# EAGLE library part ZIO_EINK_1IN54 (library df4iah_lcd)
ZIO E-Ink Display 1.54in. V1.0 200 x 200 px Size: 1.54 in. SPI bus
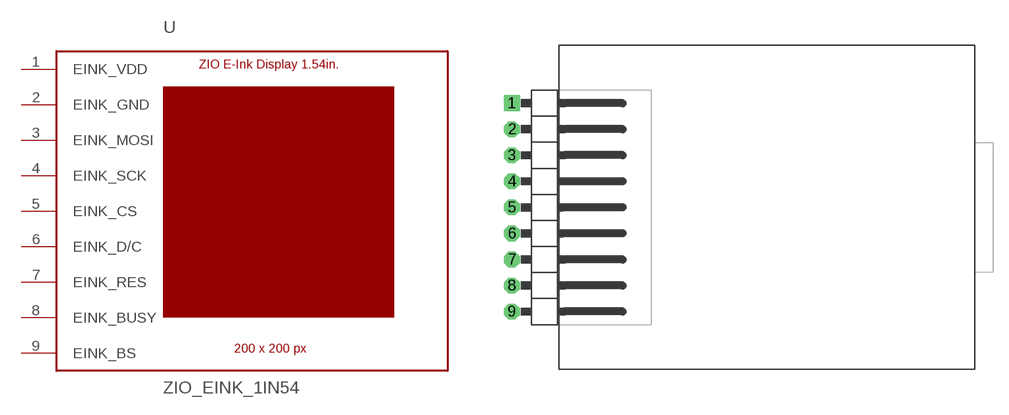
[diagram p2: symbol with the pads of ZIO_EINK_1IN54; footprint ZIO_EINK_1IN54]

Designator prefix U

## ZIO_EINK_1IN54  [ZIO_EINK_1IN54]
1  EINK_VDD  pwr
2  EINK_GND  pas
3  EINK_MOSI  in
4  EINK_SCK  in
5  EINK_CS  in
6  EINK_D/C  in
7  EINK_RES  in
8  EINK_BUSY  out
9  EINK_BS  in

## Footprint ZIO_EINK_1IN54 (pad centres in mm)
ZIO E-Ink Display 1.54in. V1.0 200 x 200 px Size: 1.54 in. SPI bus Connector 1x9/90 100mil inserted
drill 1.016 square: 1 0,10.16
drill 1.016 octagon: 2 0,7.62; 3 0,5.08; 4 0,2.54; 5 0,0; 6 0,-2.54; 7 0,-5.08; 8 0,-7.62; 9 0,-10.16